# Altium footprint library РПС-45-1.PcbLib: 1 footprints
Each footprint in its own frame and in the unit in brackets; x right, y up, seen from the top. Pads: shape width x height; smd on the part's side, far side on the other; paste and mask are expansions set on the pad; w line width, h text height; cw(c..) or ccw(c..) is an arc to the next point about the centre after c.
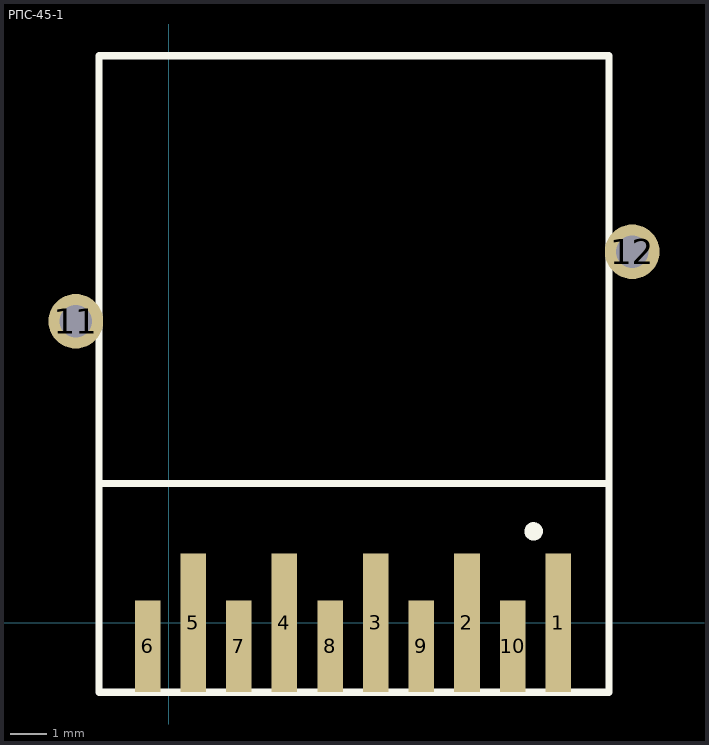
[diagram p0: the footprint, top view; thin cyan lines are the x and y axes]

## РПС-45-1 [mm]
pads (12):
  rect 0.7x3.8 smd: 1(10.675,0) 2(8.175,0) 3(5.675,0) 4(3.175,0) 5(0.675,0)
  rect 0.7x2.5 smd: 6(-0.575,-0.65) 7(1.925,-0.65) 8(4.425,-0.65) 9(6.925,-0.65) 10(9.425,-0.65)
  round 1.5 hole 0.9: 11(-2.54,8.255) 12(12.7,10.16)
Top Overlay:
  circle w0.254: c10,2.5 r0.125
  lines w0.2: -1.905,3.81 12.065,3.81 ; -1.905,-1.905 12.065,-1.905 12.065,15.526 -1.905,15.526 -1.905,-1.905
3D body: height 6.5, standoff 0, extent -1.905,3.81 12.065,15.494